# EAGLE library part TPS22917 (library bschulz)
TPS22917 - Ultra Low Leakage Load Switch Characteristics: Vin: 1v ~ 5.5v IQ: 10nA (OFF), 0.5μA (ON) RDS(ON): 80mΩ (Vin = 5v), 90mΩ (Vin = 3.3v) Output Current: 2A Operating Temperature: -40°C to 125°C Digikey: 296-48370-1-ND <https://www.digikey.com/product-detail/en/texas-instruments/TPS22917DBVT/296-48370-1-ND/8567102>
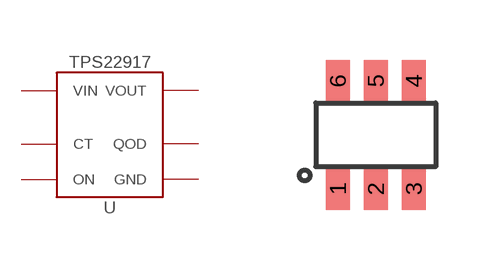
[diagram p69: symbol with the pads of DBV_R-PDSO-G6; footprint DBV_R-PDSO-G6]

Designator prefix U

## TPS22917DBV (DIGIKEY: 296-48370-1-ND; MF: TI; MPN: TPS22917DBVT)  [DBV_R-PDSO-G6]
1  VIN  pwr
2  GND  pwr
3  ON  in
4  CT  in
5  QOD  pwr
6  VOUT  pwr

## Footprint DBV_R-PDSO-G6 (pad centres in mm)
smd 0.6 x 1.05: 1 -0.95,-1.35; 2 0,-1.35; 3 0.95,-1.35; 4 0.95,1.35; 5 0,1.35; 6 -0.95,1.35